# EAGLE library part 24LC64ST (library Lysenko_Eagle_Lib)
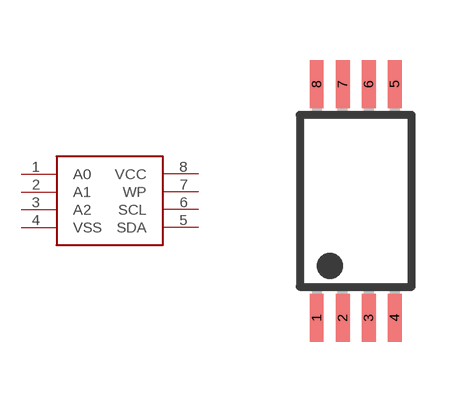
[diagram p28: symbol with the pads of TSSOP-8; footprint TSSOP-8]

Designator prefix -

## 24LC64ST  [TSSOP-8]
1  A0
2  A1
3  A2
4  VSS
5  SDA
6  SCL
7  WP
8  VCC

## Footprint TSSOP-8 (pad centres in mm)
smd 0.35 x 1.2: 1 -0.975,-2.925; 2 -0.325,-2.925; 3 0.325,-2.925; 4 0.975,-2.925; 5 0.975,2.925; 6 0.325,2.925; 7 -0.325,2.925; 8 -0.975,2.925